# Altium schematic symbol library U_LT6220CS5.SchLib: 1 symbol
Pins are listed as number, name and electrical type; pins without a type are passive.

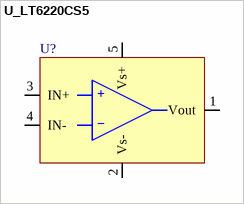
[diagram p0: symbol U_LT6220CS5]

## U_LT6220CS5
designator U?
pins: 1 Vout, 2 Vs-, 3 IN+, 4 IN-, 5 Vs+
text: +; −